# Altium integrated library NXP Semiconductors Automotive MOSFETs.IntLib: 540 symbols (part 11 of 16)
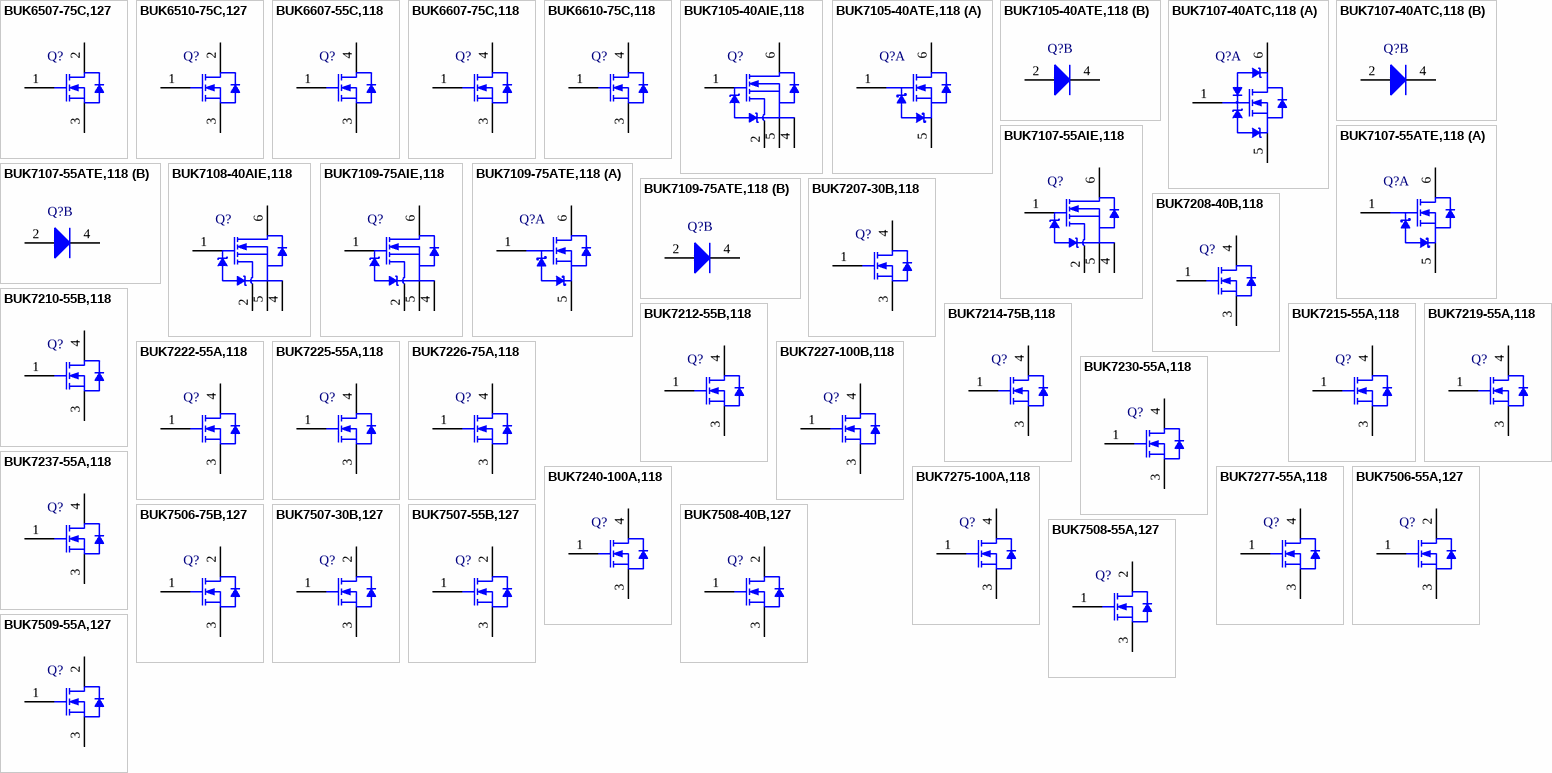
[diagram p24: symbols BUK6507-75C,127 to BUK7509-55A,127]

## BUK7507-30B,127
designator Q?
N-Channel TrenchMOS Standard Level FET, 30 V, 3-Pin SOT78A, Rail; Manufacturer: NXP Semiconductors; PartNumber: BUK7507-30B,127; Automotive Qualified: Y; Channel Type: N; IDM [max] (A): 435; Qr [typ] (nC): 28; VDS [max] (V): 30; VGSth [typ] (V): 3; DatasheetVersion: Rev. 02; PackageVersion: 05-03-14, 03/2005; PackageReference: SOT78A; PackageDescription: 3-Pin Flange Mount, Vertical Straight Lead, Body 10 x 4.3 mm, Pitch 2.54 mm; Supplier 1: Digi-Key; Supplier Part Number 1: 568-5715-5-ND; Supplier 2: Mouser; Supplier Part Number 2: 771-BUK7507-30B127; Packing: Rail; Mounting Technology: Through Hole; Code_JEITA: SC-46; Code_JEDEC: 3-lead TO-220AB; ComponentLink1Description: Manufacturer URL; ComponentLink1URL: http://www.nxp.com/; ComponentLink2Description: Datasheet; ComponentLink2URL: http://www.nxp.com/documents/data_sheet/BUK7507-30B.pdf; ComponentLink3Description: Package Specification; ComponentLink3URL: http://www.nxp.com/documents/outline_drawing/sot078a_po.pdf
footprint NXP-SOT78A (FM, 3-Leads, Body 10.3x4.5mm, Pitch 2.54mm)
pins: 1 G "gate", 2 D "drain", 3 S "source"

## BUK7507-55B,127
designator Q?
N-Channel TrenchMOS Standard Level FET, 55 V, 3-Pin SOT78A, Rail; Manufacturer: NXP Semiconductors; PartNumber: BUK7507-55B,127; Automotive Qualified: Y; Channel Type: N; IDM [max] (A): 478; Qr [typ] (nC): 60; VDS [max] (V): 55; VGSth [typ] (V): 3; DatasheetVersion: Rev. 2; PackageVersion: 05-03-14, 03/2005; PackageReference: SOT78A; PackageDescription: 3-Pin Flange Mount, Vertical Straight Lead, Body 10 x 4.3 mm, Pitch 2.54 mm; Supplier 1: Digi-Key; Supplier Part Number 1: 568-5716-5-ND; Supplier 2: Newark; Supplier Part Number 2: 70R3425; Supplier 3: Mouser; Supplier Part Number 3: 771-BUK7507-55B127; Packing: Rail; Mounting Technology: Through Hole; Code_JEITA: SC-46; Code_JEDEC: 3-lead TO-220AB; ComponentLink1Description: Manufacturer URL; ComponentLink1URL: http://www.nxp.com/; ComponentLink2Description: Datasheet; ComponentLink2URL: http://www.nxp.com/documents/data_sheet/BUK7507-55B.pdf; ComponentLink3Description: Package Specification; ComponentLink3URL: http://www.nxp.com/documents/outline_drawing/sot078a_po.pdf
footprint NXP-SOT78A (FM, 3-Leads, Body 10.3x4.5mm, Pitch 2.54mm)
pins: 1 G "gate", 2 D "drain", 3 S "source"

## BUK7508-40B,127
designator Q?
N-Channel TrenchMOS Standard Level FET, 40 V, 3-Pin SOT78A, Rail; Manufacturer: NXP Semiconductors; PartNumber: BUK7508-40B,127; Automotive Qualified: Y; Channel Type: N; IDM [max] (A): 407; Qr [typ] (nC): 44; VDS [max] (V): 40; VGSth [typ] (V): 3; DatasheetVersion: Rev. 05; PackageVersion: 05-03-14, 03/2005; PackageReference: SOT78A; PackageDescription: 3-Pin Flange Mount, Vertical Straight Lead, Body 10 x 4.3 mm, Pitch 2.54 mm; Supplier 1: Digi-Key; Supplier Part Number 1: 568-5717-5-ND; Supplier 2: Mouser; Supplier Part Number 2: 771-BUK7508-40B127; Packing: Rail; Mounting Technology: Through Hole; Code_JEITA: SC-46; Code_JEDEC: 3-lead TO-220AB; ComponentLink1Description: Manufacturer URL; ComponentLink1URL: http://www.nxp.com/; ComponentLink2Description: Datasheet; ComponentLink2URL: http://www.nxp.com/documents/data_sheet/BUK7508-40B.pdf; ComponentLink3Description: Package Specification; ComponentLink3URL: http://www.nxp.com/documents/outline_drawing/sot078a_po.pdf
footprint NXP-SOT78A (FM, 3-Leads, Body 10.3x4.5mm, Pitch 2.54mm)
pins: 1 G "gate", 2 D "drain", 3 S "source"

## BUK7508-55A,127
designator Q?
N-Channel TrenchMOS Standard Level FET, 55 V, 3-Pin SOT78A, Rail; Manufacturer: NXP Semiconductors; PartNumber: BUK7508-55A,127; Automotive Qualified: Y; Channel Type: N; IDM [max] (A): 504; Qr [typ] (nC): 170; VDS [max] (V): 55; VGSth [typ] (V): 3; DatasheetVersion: Rev. 03; PackageVersion: 08-06-13, 06/2008; PackageReference: SOT78; PackageDescription: 3-Pin Flange Mount, Vertical Straight Lead, Body 10 x 4.4 mm, Pitch 2.54 mm; Supplier 1: Digi-Key; Supplier Part Number 1: 568-9809-5-ND; Supplier 2: Mouser; Supplier Part Number 2: 771-BUK7508-55A127; Packing: Rail; Mounting Technology: Through Hole; Code_JEITA: SC-46; Code_JEDEC: 3-lead TO-220AB; ComponentLink1Description: Manufacturer URL; ComponentLink1URL: http://www.nxp.com/; ComponentLink2Description: Datasheet; ComponentLink2URL: http://www.nxp.com/documents/data_sheet/BUK7508-55A.pdf; ComponentLink3Description: Package Specification; ComponentLink3URL: http://www.nxp.com/documents/outline_drawing/sot078_po.pdf
footprint NXP-SOT78 (FM, 3-Leads, Body 10.3x4.7mm, Pitch 2.54mm)
pins: 1 G "gate", 2 D "drain", 3 S "source"

## BUK7509-55A,127
designator Q?
N-Channel TrenchMOS Standard Level FET, 55 V, 3-Pin SOT78A, Rail; Manufacturer: NXP Semiconductors; PartNumber: BUK7509-55A,127; Automotive Qualified: Y; Channel Type: N; IDM [max] (A): 433; Qr [typ] (nC): 43; VDS [max] (V): 55; VGSth [typ] (V): 3; DatasheetVersion: Rev. 02; PackageVersion: 05-03-14, 03/2005; PackageReference: SOT78A; PackageDescription: 3-Pin Flange Mount, Vertical Straight Lead, Body 10 x 4.3 mm, Pitch 2.54 mm; Supplier 1: Digi-Key; Supplier Part Number 1: 568-9812-5-ND; Supplier 2: Mouser; Supplier Part Number 2: 771-BUK7509-55A,127; Packing: Rail; Mounting Technology: Through Hole; Code_JEITA: SC-46; Code_JEDEC: 3-lead TO-220AB; ComponentLink1Description: Manufacturer URL; ComponentLink1URL: http://www.nxp.com/; ComponentLink2Description: Datasheet; ComponentLink2URL: http://www.nxp.com/documents/data_sheet/BUK7509-55A.pdf; ComponentLink3Description: Package Specification; ComponentLink3URL: http://www.nxp.com/documents/outline_drawing/sot078a_po.pdf
footprint NXP-SOT78A (FM, 3-Leads, Body 10.3x4.5mm, Pitch 2.54mm)
pins: 1 G "gate", 2 D "drain", 3 S "source"

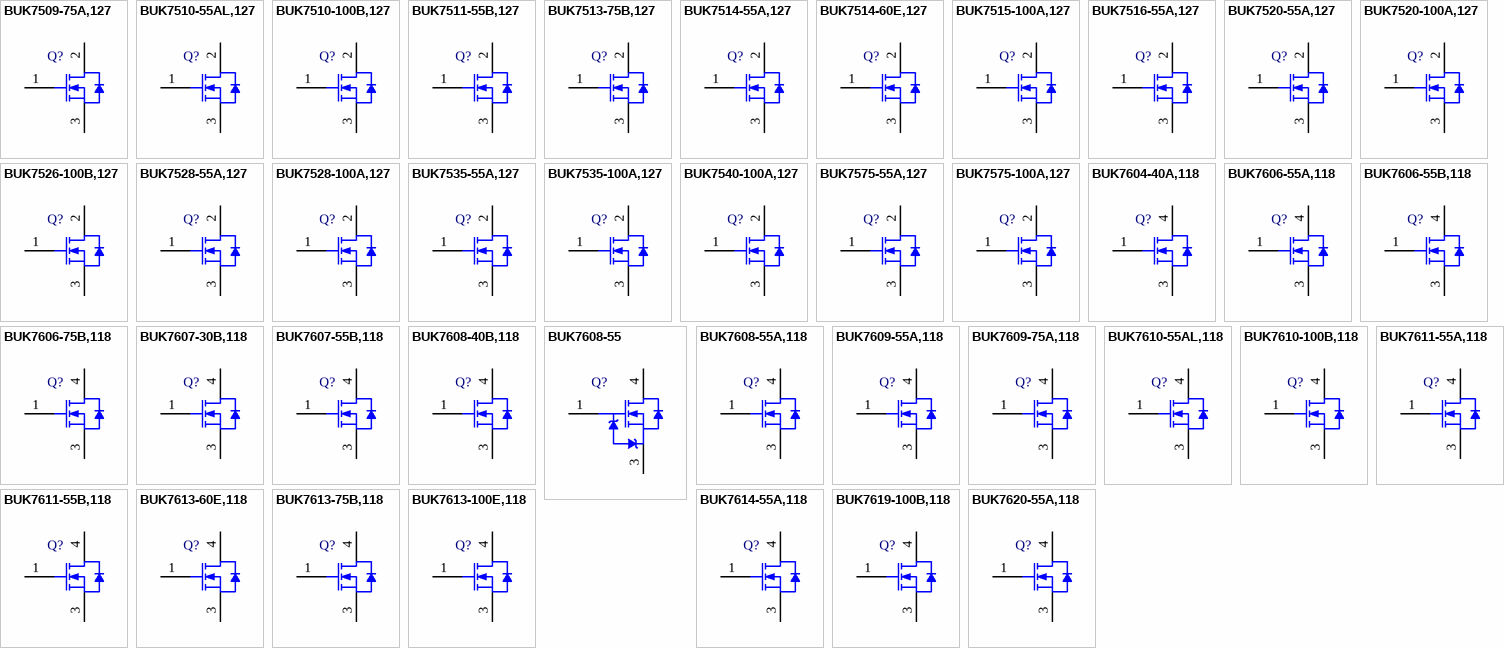
[diagram p10: symbols BUK7509-75A,127 to BUK7620-55A,118]

## BUK7509-75A,127
designator Q?
N-Channel TrenchMOS Standard Level FET, 75 V, 75 A, 3-Pin SOT78A, Rail; Manufacturer: NXP Semiconductors; PartNumber: BUK7509-75A,127; Automotive Qualified: Y; Channel Type: N; ID [max] (A): 75; IDM [max] (A): 440; Qr [typ] (nC): 270; VGSth [typ] (V): 3; DatasheetVersion: Rev. 03; PackageVersion: 05-03-14, 03/2005; PackageReference: SOT78A; PackageDescription: 3-Pin Flange Mount, Vertical Straight Lead, Body 10 x 4.3 mm, Pitch 2.54 mm; Supplier 1: Digi-Key; Supplier Part Number 1: 568-9811-5-ND; Supplier 2: Mouser; Supplier Part Number 2: 771-BUK7509-75A127; Packing: Rail; VDS [max] (V): 75; Mounting Technology: Through Hole; Code_JEITA: SC-46; Code_JEDEC: 3-lead TO-220AB; ComponentLink1Description: Manufacturer URL; ComponentLink1URL: http://www.nxp.com/; ComponentLink2Description: Datasheet; ComponentLink2URL: http://www.nxp.com/documents/data_sheet/BUK7509-75A.pdf; ComponentLink3Description: Package Specification; ComponentLink3URL: http://www.nxp.com/documents/outline_drawing/sot078a_po.pdf
footprint NXP-SOT78A (FM, 3-Leads, Body 10.3x4.5mm, Pitch 2.54mm)
pins: 1 G "gate", 2 D "drain", 3 S "source"

## BUK7510-55AL,127
designator Q?
N-Channel TrenchMOS Standard Level FET, 55 V, 3-Pin SOT78A, Rail; Manufacturer: NXP Semiconductors; PartNumber: BUK7510-55AL,127; Automotive Qualified: Y; Channel Type: N; IDM [max] (A): 490; Qr [typ] (nC): 430; VDS [max] (V): 55; VGSth [typ] (V): 3; DatasheetVersion: Rev. 03; PackageVersion: 08-06-13, 06/2008; PackageReference: SOT78; PackageDescription: 3-Pin Flange Mount, Vertical Straight Lead, Body 10 x 4.4 mm, Pitch 2.54 mm; Supplier 1: Digi-Key; Supplier Part Number 1: 568-9810-5-ND; Supplier 2: Mouser; Supplier Part Number 2: 771-BUK7510-55AL,127; Packing: Rail; Mounting Technology: Through Hole; Code_JEITA: SC-46; Code_JEDEC: 3-lead TO-220AB; ComponentLink1Description: Manufacturer URL; ComponentLink1URL: http://www.nxp.com/; ComponentLink2Description: Datasheet; ComponentLink2URL: http://www.nxp.com/documents/data_sheet/BUK7510-55AL.pdf; ComponentLink3Description: Package Specification; ComponentLink3URL: http://www.nxp.com/documents/outline_drawing/sot078_po.pdf
footprint NXP-SOT78 (FM, 3-Leads, Body 10.3x4.7mm, Pitch 2.54mm)
pins: 1 G "gate", 2 D "drain", 3 S "source"

## BUK7510-100B,127
designator Q?
N-Channel TrenchMOS Standard Level FET, 100 V, 3-Pin SOT78A, Rail; Manufacturer: NXP Semiconductors; PartNumber: BUK7510-100B,127; Automotive Qualified: Y; Channel Type: N; IDM [max] (A): 438; Qr [typ] (nC): 212; VDS [max] (V): 100; VGSth [typ] (V): 3; DatasheetVersion: Rev. 4; PackageVersion: 05-03-14, 03/2005; PackageReference: SOT78A; PackageDescription: 3-Pin Flange Mount, Vertical Straight Lead, Body 10 x 4.3 mm, Pitch 2.54 mm; Supplier 1: Digi-Key; Supplier Part Number 1: 568-6620-5-ND; Supplier 2: Mouser; Supplier Part Number 2: 771-BUK7510-100B127; Packing: Rail; Mounting Technology: Through Hole; Code_JEITA: SC-46; Code_JEDEC: 3-lead TO-220AB; ComponentLink1Description: Manufacturer URL; ComponentLink1URL: http://www.nxp.com/; ComponentLink2Description: Datasheet; ComponentLink2URL: http://www.nxp.com/documents/data_sheet/BUK7510-100B.pdf; ComponentLink3Description: Package Specification; ComponentLink3URL: http://www.nxp.com/documents/outline_drawing/sot078a_po.pdf
footprint NXP-SOT78A (FM, 3-Leads, Body 10.3x4.5mm, Pitch 2.54mm)
pins: 1 G "gate", 2 D "drain", 3 S "source"

## BUK7511-55B,127
designator Q?
N-Channel TrenchMOS Standard Level FET, 55 V, 3-Pin SOT78A, Rail; Manufacturer: NXP Semiconductors; PartNumber: BUK7511-55B,127; Automotive Qualified: Y; Channel Type: N; IDM [max] (A): 338; Qr [typ] (nC): 58; VDS [max] (V): 55; VGSth [typ] (V): 3; DatasheetVersion: Rev. 3; PackageVersion: 05-03-14, 03/2005; PackageReference: SOT78A; PackageDescription: 3-Pin Flange Mount, Vertical Straight Lead, Body 10 x 4.3 mm, Pitch 2.54 mm; Supplier 1: Digi-Key; Supplier Part Number 1: 568-5718-5-ND; Supplier 2: Mouser; Supplier Part Number 2: 771-BUK7511-55B127; Packing: Rail; Mounting Technology: Through Hole; Code_JEITA: SC-46; Code_JEDEC: 3-lead TO-220AB; ComponentLink1Description: Manufacturer URL; ComponentLink1URL: http://www.nxp.com/; ComponentLink2Description: Datasheet; ComponentLink2URL: http://www.nxp.com/documents/data_sheet/BUK7511-55B.pdf; ComponentLink3Description: Package Specification; ComponentLink3URL: http://www.nxp.com/documents/outline_drawing/sot078a_po.pdf
footprint NXP-SOT78A (FM, 3-Leads, Body 10.3x4.5mm, Pitch 2.54mm)
pins: 1 G "gate", 2 D "drain", 3 S "source"

## BUK7513-75B,127
designator Q?
N-Channel TrenchMOS Standard Level FET, 75 V, 75 A, 3-Pin SOT78A, Rail; Manufacturer: NXP Semiconductors; PartNumber: BUK7513-75B,127; Automotive Qualified: Y; Channel Type: N; ID [max] (A): 75; IDM [max] (A): 304; Qr [typ] (nC): 94; VGSth [typ] (V): 3; DatasheetVersion: Rev. 02; PackageVersion: 05-03-14, 03/2005; PackageReference: SOT78A; PackageDescription: 3-Pin Flange Mount, Vertical Straight Lead, Body 10 x 4.3 mm, Pitch 2.54 mm; Supplier 1: Digi-Key; Supplier Part Number 1: 568-5719-5-ND; Supplier 2: Mouser; Supplier Part Number 2: 771-BUK7513-75B127; Packing: Rail; VDS [max] (V): 75; Mounting Technology: Through Hole; Code_JEITA: SC-46; Code_JEDEC: 3-lead TO-220AB; ComponentLink1Description: Manufacturer URL; ComponentLink1URL: http://www.nxp.com/; ComponentLink2Description: Datasheet; ComponentLink2URL: http://www.nxp.com/documents/data_sheet/BUK7513-75B.pdf; ComponentLink3Description: Package Specification; ComponentLink3URL: http://www.nxp.com/documents/outline_drawing/sot078a_po.pdf
footprint NXP-SOT78A (FM, 3-Leads, Body 10.3x4.5mm, Pitch 2.54mm)
pins: 1 G "gate", 2 D "drain", 3 S "source"

## BUK7514-55A,127
designator Q?
N-Channel TrenchMOS Standard Level FET, 55 V, 73 A, 3-Pin SOT78A, Rail; Manufacturer: NXP Semiconductors; PartNumber: BUK7514-55A,127; Automotive Qualified: Y; Channel Type: N; ID [max] (A): 73; IDM [max] (A): 266; Qr [typ] (nC): 120; VDS [max] (V): 55; VGSth [typ] (V): 3; DatasheetVersion: Rev. 2; PackageVersion: 05-03-14, 03/2005; PackageReference: SOT78A; PackageDescription: 3-Pin Flange Mount, Vertical Straight Lead, Body 10 x 4.3 mm, Pitch 2.54 mm; Supplier 1: Digi-Key; Supplier Part Number 1: 568-9813-5-ND; Supplier 2: Mouser; Supplier Part Number 2: 771-BUK7514-55A127; Packing: Rail; Mounting Technology: Through Hole; Code_JEITA: SC-46; Code_JEDEC: 3-lead TO-220AB; ComponentLink1Description: Manufacturer URL; ComponentLink1URL: http://www.nxp.com/; ComponentLink2Description: Datasheet; ComponentLink2URL: http://www.nxp.com/documents/data_sheet/BUK7514-55A.pdf; ComponentLink3Description: Package Specification; ComponentLink3URL: http://www.nxp.com/documents/outline_drawing/sot078a_po.pdf
footprint NXP-SOT78A (FM, 3-Leads, Body 10.3x4.5mm, Pitch 2.54mm)
pins: 1 G "gate", 2 D "drain", 3 S "source"

## BUK7514-60E,127
designator Q?
N-Channel TrenchMOS Standard Level FET, 60 V, 58 A, 3-Pin SOT78A, Rail; Manufacturer: NXP Semiconductors; PartNumber: BUK7514-60E,127; Automotive Qualified: Y; Channel Type: N; ID [max] (A): 58; IDM [max] (A): 234; Qr [typ] (nC): 18.1; VDS [max] (V): 60; VGSth [typ] (V): 3; PackageVersion: 05-03-14, 03/2005; PackageReference: SOT78A; PackageDescription: 3-Pin Flange Mount, Vertical Straight Lead, Body 10 x 4.3 mm, Pitch 2.54 mm; Supplier 1: Digi-Key; Supplier Part Number 1: 568-9836-5-ND; Supplier 2: Mouser; Supplier Part Number 2: 771-BUK7514-60E127; Packing: Rail; Mounting Technology: Through Hole; Code_JEITA: SC-46; Code_JEDEC: 3-lead TO-220AB; ComponentLink1Description: Manufacturer URL; ComponentLink1URL: http://www.nxp.com/; ComponentLink2Description: Datasheet; ComponentLink2URL: http://www.nxp.com/documents/data_sheet/BUK7514-60E.pdf; ComponentLink3Description: Package Specification; ComponentLink3URL: http://www.nxp.com/documents/outline_drawing/sot078a_po.pdf
footprint NXP-SOT78A (FM, 3-Leads, Body 10.3x4.5mm, Pitch 2.54mm)
pins: 1 G "gate", 2 D "drain", 3 S "source"

## BUK7515-100A,127
designator Q?
N-Channel TrenchMOS Standard Level FET, 100 V, 75 A, 3-Pin SOT78A, Rail; Manufacturer: NXP Semiconductors; PartNumber: BUK7515-100A,127; Automotive Qualified: Y; Channel Type: N; ID [max] (A): 75; IDM [max] (A): 240; Qr [typ] (nC): 350; VDS [max] (V): 100; VGSth [typ] (V): 3; PackageVersion: 05-03-14, 03/2005; PackageReference: SOT78A; PackageDescription: 3-Pin Flange Mount, Vertical Straight Lead, Body 10 x 4.3 mm, Pitch 2.54 mm; Supplier 1: Digi-Key; Supplier Part Number 1: 568-9804-5-ND; Supplier 2: Mouser; Supplier Part Number 2: 771-BUK7515-100A127; Packing: Rail; Mounting Technology: Through Hole; Code_JEITA: SC-46; Code_JEDEC: 3-lead TO-220AB; ComponentLink1Description: Manufacturer URL; ComponentLink1URL: http://www.nxp.com/; ComponentLink2Description: Datasheet; ComponentLink2URL: http://www.nxp.com/documents/data_sheet/BUK7515-100A.pdf; ComponentLink3Description: Package Specification; ComponentLink3URL: http://www.nxp.com/documents/outline_drawing/sot078a_po.pdf
footprint NXP-SOT78A (FM, 3-Leads, Body 10.3x4.5mm, Pitch 2.54mm)
pins: 1 G "gate", 2 D "drain", 3 S "source"

## BUK7516-55A,127
designator Q?
N-Channel TrenchMOS Standard Level FET, 55 V, 65.7 A, 3-Pin SOT78A, Rail; Manufacturer: NXP Semiconductors; PartNumber: BUK7516-55A,127; Automotive Qualified: Y; Channel Type: N; ID [max] (A): 65.7; IDM [max] (A): 263; Qr [typ] (nC): 106; VDS [max] (V): 55; VGSth [typ] (V): 3; DatasheetVersion: Rev. 02; PackageVersion: 05-03-14, 03/2005; PackageReference: SOT78A; PackageDescription: 3-Pin Flange Mount, Vertical Straight Lead, Body 10 x 4.3 mm, Pitch 2.54 mm; Supplier 1: Digi-Key; Supplier Part Number 1: 568-9806-5-ND; Supplier 2: Mouser; Supplier Part Number 2: 771-BUK7516-55A127; Packing: Rail; Mounting Technology: Through Hole; Code_JEITA: SC-46; Code_JEDEC: 3-lead TO-220AB; ComponentLink1Description: Manufacturer URL; ComponentLink1URL: http://www.nxp.com/; ComponentLink2Description: Datasheet; ComponentLink2URL: http://www.nxp.com/documents/data_sheet/BUK7516-55A.pdf; ComponentLink3Description: Package Specification; ComponentLink3URL: http://www.nxp.com/documents/outline_drawing/sot078a_po.pdf
footprint NXP-SOT78A (FM, 3-Leads, Body 10.3x4.5mm, Pitch 2.54mm)
pins: 1 G "gate", 2 D "drain", 3 S "source"

## BUK7520-55A,127
designator Q?
N-Channel TrenchMOS Standard Level FET, 55 V, 54 A, 3-Pin SOT78, Rail; Manufacturer: NXP Semiconductors; PartNumber: BUK7520-55A,127; Automotive Qualified: Y; Channel Type: N; ID [max] (A): 54; IDM [max] (A): 217; Qr [typ] (nC): 110; VDS [max] (V): 55; VGSth [typ] (V): 3; DatasheetVersion: Rev. 02; PackageVersion: 08-06-13, 06/2008; PackageReference: SOT78; PackageDescription: 3-Pin Flange Mount, Vertical Straight Lead, Body 10 x 4.4 mm, Pitch 2.54 mm; Supplier 1: Digi-Key; Supplier Part Number 1: 568-9807-5-ND; Supplier 2: Mouser; Supplier Part Number 2: 771-BUK7520-55A127; Packing: Rail; Mounting Technology: Through Hole; Code_JEITA: SC-46; Code_JEDEC: 3-lead TO-220AB; ComponentLink1Description: Manufacturer URL; ComponentLink1URL: http://www.nxp.com/; ComponentLink2Description: Datasheet; ComponentLink2URL: http://www.nxp.com/documents/data_sheet/BUK7520-55A.pdf; ComponentLink3Description: Package Specification; ComponentLink3URL: http://www.nxp.com/documents/outline_drawing/sot078_po.pdf
footprint NXP-SOT78 (FM, 3-Leads, Body 10.3x4.7mm, Pitch 2.54mm)
pins: 1 G "gate", 2 D "drain", 3 S "source"

## BUK7520-100A,127
designator Q?
N-Channel TrenchMOS Standard Level FET, 100 V, 63 A, 3-Pin SOT78A, Rail; Manufacturer: NXP Semiconductors; PartNumber: BUK7520-100A,127; Automotive Qualified: Y; Channel Type: N; ID [max] (A): 63; IDM [max] (A): 253; Qr [typ] (nC): 282; VDS [max] (V): 100; VGSth [typ] (V): 3; DatasheetVersion: Rev. 2; PackageVersion: 05-03-14, 03/2005; PackageReference: SOT78A; PackageDescription: 3-Pin Flange Mount, Vertical Straight Lead, Body 10 x 4.3 mm, Pitch 2.54 mm; Supplier 1: Digi-Key; Supplier Part Number 1: 568-9800-5-ND; Supplier 2: Mouser; Supplier Part Number 2: 771-BUK7520-100A127; Packing: Rail; Mounting Technology: Through Hole; Code_JEITA: SC-46; Code_JEDEC: 3-lead TO-220AB; ComponentLink1Description: Manufacturer URL; ComponentLink1URL: http://www.nxp.com/; ComponentLink2Description: Datasheet; ComponentLink2URL: http://www.nxp.com/documents/data_sheet/BUK7520-100A.pdf; ComponentLink3Description: Package Specification; ComponentLink3URL: http://www.nxp.com/documents/outline_drawing/sot078a_po.pdf
footprint NXP-SOT78A (FM, 3-Leads, Body 10.3x4.5mm, Pitch 2.54mm)
pins: 1 G "gate", 2 D "drain", 3 S "source"

## BUK7526-100B,127
designator Q?
N-Channel TrenchMOS Standard Level FET, 100 V, 49 A, 3-Pin SOT78A, Rail; Manufacturer: NXP Semiconductors; PartNumber: BUK7526-100B,127; Automotive Qualified: Y; Channel Type: N; ID [max] (A): 49; IDM [max] (A): 197; Qr [typ] (nC): 115; VDS [max] (V): 100; VGSth [typ] (V): 3; PackageVersion: 05-03-14, 03/2005; PackageReference: SOT78A; PackageDescription: 3-Pin Flange Mount, Vertical Straight Lead, Body 10 x 4.3 mm, Pitch 2.54 mm; Supplier 1: Digi-Key; Supplier Part Number 1: 568-5720-5-ND; Supplier 2: Mouser; Supplier Part Number 2: 771-BUK7526-100B127; Packing: Rail; Mounting Technology: Through Hole; Code_JEITA: SC-46; Code_JEDEC: 3-lead TO-220AB; ComponentLink1Description: Manufacturer URL; ComponentLink1URL: http://www.nxp.com/; ComponentLink2Description: Datasheet; ComponentLink2URL: http://www.nxp.com/documents/data_sheet/BUK7526-100B.pdf; ComponentLink3Description: Package Specification; ComponentLink3URL: http://www.nxp.com/documents/outline_drawing/sot078a_po.pdf
footprint NXP-SOT78A (FM, 3-Leads, Body 10.3x4.5mm, Pitch 2.54mm)
pins: 1 G "gate", 2 D "drain", 3 S "source"

## BUK7528-55A,127
designator Q?
N-Channel TrenchMOS Standard Level FET, 55 V, 42 A, 3-Pin SOT78A, Rail; Manufacturer: NXP Semiconductors; PartNumber: BUK7528-55A,127; Automotive Qualified: Y; Channel Type: N; ID [max] (A): 42; IDM [max] (A): 168; Qr [typ] (nC): 88; VDS [max] (V): 55; VGSth [typ] (V): 3; DatasheetVersion: Rev. 02; PackageVersion: 05-03-14, 03/2005; PackageReference: SOT78A; PackageDescription: 3-Pin Flange Mount, Vertical Straight Lead, Body 10 x 4.3 mm, Pitch 2.54 mm; Supplier 1: Digi-Key; Supplier Part Number 1: 568-9799-5-ND; Supplier 2: Mouser; Supplier Part Number 2: 771-BUK7528-55A127; Packing: Rail; Mounting Technology: Through Hole; Code_JEITA: SC-46; Code_JEDEC: 3-lead TO-220AB; ComponentLink1Description: Manufacturer URL; ComponentLink1URL: http://www.nxp.com/; ComponentLink2Description: Datasheet; ComponentLink2URL: http://www.nxp.com/documents/data_sheet/BUK7528-55A.pdf; ComponentLink3Description: Package Specification; ComponentLink3URL: http://www.nxp.com/documents/outline_drawing/sot078a_po.pdf
footprint NXP-SOT78A (FM, 3-Leads, Body 10.3x4.5mm, Pitch 2.54mm)
pins: 1 G "gate", 2 D "drain", 3 S "source"

## BUK7528-100A,127
designator Q?
N-Channel TrenchMOS Standard Level FET, 100 V, 47 A, 3-Pin SOT78A, Rail; Manufacturer: NXP Semiconductors; PartNumber: BUK7528-100A,127; Automotive Qualified: Y; Channel Type: N; ID [max] (A): 47; IDM [max] (A): 187; Qr [typ] (nC): 240; VDS [max] (V): 100; VGSth [typ] (V): 3; DatasheetVersion: Rev. 2; PackageVersion: 05-03-14, 03/2005; PackageReference: SOT78A; PackageDescription: 3-Pin Flange Mount, Vertical Straight Lead, Body 10 x 4.3 mm, Pitch 2.54 mm; Supplier 1: Digi-Key; Supplier Part Number 1: 568-9801-5-ND; Supplier 2: Mouser; Supplier Part Number 2: 771-BUK7528-100A127; Packing: Rail; Mounting Technology: Through Hole; Code_JEITA: SC-46; Code_JEDEC: 3-lead TO-220AB; ComponentLink1Description: Manufacturer URL; ComponentLink1URL: http://www.nxp.com/; ComponentLink2Description: Datasheet; ComponentLink2URL: http://www.nxp.com/documents/data_sheet/BUK7528-100A.pdf; ComponentLink3Description: Package Specification; ComponentLink3URL: http://www.nxp.com/documents/outline_drawing/sot078a_po.pdf
footprint NXP-SOT78A (FM, 3-Leads, Body 10.3x4.5mm, Pitch 2.54mm)
pins: 1 G "gate", 2 D "drain", 3 S "source"

## BUK7535-55A,127
designator Q?
N-Channel TrenchMOS Standard Level FET, 55 V, 35 A, 3-Pin SOT78A, Rail; Manufacturer: NXP Semiconductors; PartNumber: BUK7535-55A,127; Automotive Qualified: Y; Channel Type: N; ID [max] (A): 35; IDM [max] (A): 139; Qr [typ] (nC): 80; VDS [max] (V): 55; VGSth [typ] (V): 3; DatasheetVersion: Rev. 02; PackageVersion: 05-03-14, 03/2005; PackageReference: SOT78A; PackageDescription: 3-Pin Flange Mount, Vertical Straight Lead, Body 10 x 4.3 mm, Pitch 2.54 mm; Supplier 1: Digi-Key; Supplier Part Number 1: 568-9802-5-ND; Supplier 2: Newark; Supplier Part Number 2: 70R3450; Supplier 3: Mouser; Supplier Part Number 3: 771-BUK7535-55A127; Packing: Rail; Mounting Technology: Through Hole; Code_JEITA: SC-46; Code_JEDEC: 3-lead TO-220AB; ComponentLink1Description: Manufacturer URL; ComponentLink1URL: http://www.nxp.com/; ComponentLink2Description: Datasheet; ComponentLink2URL: http://www.nxp.com/documents/data_sheet/BUK7535-55A.pdf; ComponentLink3Description: Package Specification; ComponentLink3URL: http://www.nxp.com/documents/outline_drawing/sot078a_po.pdf
footprint NXP-SOT78A (FM, 3-Leads, Body 10.3x4.5mm, Pitch 2.54mm)
pins: 1 G "gate", 2 D "drain", 3 S "source"

## BUK7535-100A,127
designator Q?
N-Channel TrenchMOS Standard Level FET, 100 V, 41 A, 3-Pin SOT78A, Rail; Manufacturer: NXP Semiconductors; PartNumber: BUK7535-100A,127; Automotive Qualified: Y; Channel Type: N; ID [max] (A): 41; IDM [max] (A): 165; Qr [typ] (nC): 220; VDS [max] (V): 100; VGSth [typ] (V): 3; DatasheetVersion: Rev. 02; PackageVersion: 05-03-14, 03/2005; PackageReference: SOT78A; PackageDescription: 3-Pin Flange Mount, Vertical Straight Lead, Body 10 x 4.3 mm, Pitch 2.54 mm; Supplier 1: Digi-Key; Supplier Part Number 1: 568-9803-5-ND; Supplier 2: Mouser; Supplier Part Number 2: 771-BUK7535-100A127; Packing: Rail; Mounting Technology: Through Hole; Code_JEITA: SC-46; Code_JEDEC: 3-lead TO-220AB; ComponentLink1Description: Manufacturer URL; ComponentLink1URL: http://www.nxp.com/; ComponentLink2Description: Datasheet; ComponentLink2URL: http://www.nxp.com/documents/data_sheet/BUK7535-100A.pdf; ComponentLink3Description: Package Specification; ComponentLink3URL: http://www.nxp.com/documents/outline_drawing/sot078a_po.pdf
footprint NXP-SOT78A (FM, 3-Leads, Body 10.3x4.5mm, Pitch 2.54mm)
pins: 1 G "gate", 2 D "drain", 3 S "source"

## BUK7540-100A,127
designator Q?
N-Channel TrenchMOS Standard Level FET, 100 V, 37 A, 3-Pin SOT78A, Rail; Manufacturer: NXP Semiconductors; PartNumber: BUK7540-100A,127; Automotive Qualified: Y; Channel Type: N; ID [max] (A): 37; IDM [max] (A): 149; Qr [typ] (nC): 240; VDS [max] (V): 100; VGSth [typ] (V): 3; DatasheetVersion: Rev. 2; PackageVersion: 05-03-14, 03/2005; PackageReference: SOT78A; PackageDescription: 3-Pin Flange Mount, Vertical Straight Lead, Body 10 x 4.3 mm, Pitch 2.54 mm; Supplier 1: Digi-Key; Supplier Part Number 1: 568-9794-5-ND; Supplier 2: Mouser; Supplier Part Number 2: 771-BUK7540-100A127; Packing: Rail; Mounting Technology: Through Hole; Code_JEITA: SC-46; Code_JEDEC: 3-lead TO-220AB; ComponentLink1Description: Manufacturer URL; ComponentLink1URL: http://www.nxp.com/; ComponentLink2Description: Datasheet; ComponentLink2URL: http://www.nxp.com/documents/data_sheet/BUK7540-100A.pdf; ComponentLink3Description: Package Specification; ComponentLink3URL: http://www.nxp.com/documents/outline_drawing/sot078a_po.pdf
footprint NXP-SOT78A (FM, 3-Leads, Body 10.3x4.5mm, Pitch 2.54mm)
pins: 1 G "gate", 2 D "drain", 3 S "source"

## BUK7575-55A,127
designator Q?
N-Channel TrenchMOS Standard Level FET, 55 V, 20.3 A, 3-Pin SOT78A, Rail; Manufacturer: NXP Semiconductors; PartNumber: BUK7575-55A,127; Automotive Qualified: Y; Channel Type: N; ID [max] (A): 20.3; IDM [max] (A): 81; Qr [typ] (nC): 120; VDS [max] (V): 55; VGSth [typ] (V): 3; DatasheetVersion: Rev. 02; PackageVersion: 05-03-14, 03/2005; PackageReference: SOT78A; PackageDescription: 3-Pin Flange Mount, Vertical Straight Lead, Body 10 x 4.3 mm, Pitch 2.54 mm; Supplier 1: Digi-Key; Supplier Part Number 1: 568-9767-5-ND; Supplier 2: Mouser; Supplier Part Number 2: 771-BUK7575-55A127; Packing: Rail; Mounting Technology: Through Hole; Code_JEITA: SC-46; Code_JEDEC: 3-lead TO-220AB; ComponentLink1Description: Manufacturer URL; ComponentLink1URL: http://www.nxp.com/; ComponentLink2Description: Datasheet; ComponentLink2URL: http://www.nxp.com/documents/data_sheet/BUK7575-55A.pdf; ComponentLink3Description: Package Specification; ComponentLink3URL: http://www.nxp.com/documents/outline_drawing/sot078a_po.pdf
footprint NXP-SOT78A (FM, 3-Leads, Body 10.3x4.5mm, Pitch 2.54mm)
pins: 1 G "gate", 2 D "drain", 3 S "source"

## BUK7575-100A,127
designator Q?
N-Channel TrenchMOS Standard Level FET, 100 V, 23 A, 3-Pin SOT78A, Rail; Manufacturer: NXP Semiconductors; PartNumber: BUK7575-100A,127; Automotive Qualified: Y; Channel Type: N; ID [max] (A): 23; IDM [max] (A): 92; Qr [typ] (nC): 120; VDS [max] (V): 100; VGSth [typ] (V): 3; DatasheetVersion: Rev. 02; PackageVersion: 05-03-14, 03/2005; PackageReference: SOT78A; PackageDescription: 3-Pin Flange Mount, Vertical Straight Lead, Body 10 x 4.3 mm, Pitch 2.54 mm; Supplier 1: Digi-Key; Supplier Part Number 1: 568-9776-5-ND; Supplier 2: Newark; Supplier Part Number 2: 70R3456; Supplier 3: Mouser; Supplier Part Number 3: 771-BUK7575-100A127; Packing: Rail; Mounting Technology: Through Hole; Code_JEITA: SC-46; Code_JEDEC: 3-lead TO-220AB; ComponentLink1Description: Manufacturer URL; ComponentLink1URL: http://www.nxp.com/; ComponentLink2Description: Datasheet; ComponentLink2URL: http://www.nxp.com/documents/data_sheet/BUK7575-100A.pdf; ComponentLink3Description: Package Specification; ComponentLink3URL: http://www.nxp.com/documents/outline_drawing/sot078a_po.pdf
footprint NXP-SOT78A (FM, 3-Leads, Body 10.3x4.5mm, Pitch 2.54mm)
pins: 1 G "gate", 2 D "drain", 3 S "source"

## BUK7604-40A,118
designator Q?
N-Channel TrenchMOS Standard Level FET, 40 V, 3-Pin SOT404, Tape and Reel; Manufacturer: NXP Semiconductors; PartNumber: BUK7604-40A,118; Automotive Qualified: Y; Channel Type: N; IDM [max] (A): 794; Packing: Tape & Reel; Qr [typ] (nC): 224; VDS [max] (V): 40; VGSth [typ] (V): 3; DatasheetVersion: Rev. 03; PackageVersion: 13-02-25, 02/2013; PackageReference: SOT404; PackageDescription: 3-Pin Plastic Single-ended Surface Mounted Package, Body 10 x 9.6 mm, Pitch 2.54 mm; Supplier 1: Digi-Key; Supplier Part Number 1: 568-9644-2-ND; Supplier 2: Digi-Key; Supplier Part Number 2: 568-9644-1-ND; Supplier 3: Digi-Key; Supplier Part Number 3: 568-9644-6-ND; Supplier 4: Mouser; Supplier Part Number 4: 771-BUK7604-40A118; Mounting Technology: Surface Mount; ComponentLink1Description: Manufacturer URL; ComponentLink1URL: http://www.nxp.com/; ComponentLink2Description: Datasheet; ComponentLink2URL: http://www.nxp.com/documents/data_sheet/BUK7604-40A.pdf; ComponentLink3Description: Package Specification; ComponentLink3URL: http://www.nxp.com/documents/outline_drawing/sot404_po.pdf
footprint NXP-SOT404_N (DPAK, 3-Leads, Body 10.3x9.8mm, Pitch 2.54mm, IPC Medium Density)
footprint NXP-SOT404_L (DPAK, 3-Leads, Body 10.3x9.8mm, Pitch 2.54mm, IPC High Density)
footprint NXP-SOT404_M (DPAK, 3-Leads, Body 10.3x9.8mm, Pitch 2.54mm, IPC Low Density)
pins: 1 G "gate", 3 S "source", 4 D "mounting base; connected to drain"

## BUK7606-55A,118
designator Q?
N-Channel TrenchMOS Standard Level FET, 55 V, 3-Pin SOT404, Tape and Reel; Manufacturer: NXP Semiconductors; PartNumber: BUK7606-55A,118; Automotive Qualified: Y; Channel Type: N; IDM [max] (A): 616; Packing: Tape & Reel; Qr [typ] (nC): 200; VDS [max] (V): 55; VGSth [typ] (V): 3; DatasheetVersion: Rev. 03; PackageVersion: 13-02-25, 02/2013; PackageReference: SOT404; PackageDescription: 3-Pin Plastic Single-ended Surface Mounted Package, Body 10 x 9.6 mm, Pitch 2.54 mm; Supplier 1: Digi-Key; Supplier Part Number 1: BUK7606-55A,118-ND; Supplier 2: Mouser; Supplier Part Number 2: 771-BUK7606-55A118; Mounting Technology: Surface Mount; ComponentLink1Description: Manufacturer URL; ComponentLink1URL: http://www.nxp.com/; ComponentLink2Description: Datasheet; ComponentLink2URL: http://www.nxp.com/documents/data_sheet/BUK7606-55A.pdf; ComponentLink3Description: Package Specification; ComponentLink3URL: http://www.nxp.com/documents/outline_drawing/sot404_po.pdf
footprint NXP-SOT404_N (DPAK, 3-Leads, Body 10.3x9.8mm, Pitch 2.54mm, IPC Medium Density)
footprint NXP-SOT404_L (DPAK, 3-Leads, Body 10.3x9.8mm, Pitch 2.54mm, IPC High Density)
footprint NXP-SOT404_M (DPAK, 3-Leads, Body 10.3x9.8mm, Pitch 2.54mm, IPC Low Density)
pins: 1 G "gate", 3 S "source", 4 D "mounting base; connected to drain"

## BUK7606-55B,118
designator Q?
N-Channel TrenchMOS Standard Level FET, 55 V, 3-Pin SOT404, Tape and Reel; Manufacturer: NXP Semiconductors; PartNumber: BUK7606-55B,118; Automotive Qualified: Y; Channel Type: N; IDM [max] (A): 582; Packing: Tape & Reel; Qr [typ] (nC): 82; VDS [max] (V): 55; VGSth [typ] (V): 3; DatasheetVersion: Rev. 02; PackageVersion: 13-02-25, 02/2013; PackageReference: SOT404; PackageDescription: 3-Pin Plastic Single-ended Surface Mounted Package, Body 10 x 9.6 mm, Pitch 2.54 mm; Supplier 1: Digi-Key; Supplier Part Number 1: 568-6571-2-ND; Supplier 2: Digi-Key; Supplier Part Number 2: 568-6571-1-ND; Supplier 3: Digi-Key; Supplier Part Number 3: 568-6571-6-ND; Supplier 4: Mouser; Supplier Part Number 4: 771-BUK7606-55B118; Mounting Technology: Surface Mount; ComponentLink1Description: Manufacturer URL; ComponentLink1URL: http://www.nxp.com/; ComponentLink2Description: Datasheet; ComponentLink2URL: http://www.nxp.com/documents/data_sheet/BUK7606-55B.pdf; ComponentLink3Description: Package Specification; ComponentLink3URL: http://www.nxp.com/documents/outline_drawing/sot404_po.pdf
footprint NXP-SOT404_N (DPAK, 3-Leads, Body 10.3x9.8mm, Pitch 2.54mm, IPC Medium Density)
footprint NXP-SOT404_L (DPAK, 3-Leads, Body 10.3x9.8mm, Pitch 2.54mm, IPC High Density)
footprint NXP-SOT404_M (DPAK, 3-Leads, Body 10.3x9.8mm, Pitch 2.54mm, IPC Low Density)
pins: 1 G "gate", 3 S "source", 4 D "mounting base; connected to drain"

## BUK7606-75B,118
designator Q?
N-Channel TrenchMOS Standard Level FET, 75 V, 3-Pin SOT404, Tape and Reel; Manufacturer: NXP Semiconductors; PartNumber: BUK7606-75B,118; Automotive Qualified: Y; Channel Type: N; IDM [max] (A): 638; Packing: Tape & Reel; Qr [typ] (nC): 253; VDS [max] (V): 75; VGSth [typ] (V): 3; DatasheetVersion: Rev. 03; PackageVersion: 13-02-25, 02/2013; PackageReference: SOT404; PackageDescription: 3-Pin Plastic Single-ended Surface Mounted Package, Body 10 x 9.6 mm, Pitch 2.54 mm; Supplier 1: Digi-Key; Supplier Part Number 1: 568-6572-2-ND; Supplier 2: Digi-Key; Supplier Part Number 2: 568-6572-1-ND; Supplier 3: Digi-Key; Supplier Part Number 3: 568-6572-6-ND; Supplier 4: Newark; Supplier Part Number 4: 70R3461; Supplier 5: Mouser; Supplier Part Number 5: 771-BUK7606-75B118; Mounting Technology: Surface Mount; ComponentLink1Description: Manufacturer URL; ComponentLink1URL: http://www.nxp.com/; ComponentLink2Description: Datasheet; ComponentLink2URL: http://www.nxp.com/documents/data_sheet/BUK7606-75B.pdf; ComponentLink3Description: Package Specification; ComponentLink3URL: http://www.nxp.com/documents/outline_drawing/sot404_po.pdf
footprint NXP-SOT404_N (DPAK, 3-Leads, Body 10.3x9.8mm, Pitch 2.54mm, IPC Medium Density)
footprint NXP-SOT404_L (DPAK, 3-Leads, Body 10.3x9.8mm, Pitch 2.54mm, IPC High Density)
footprint NXP-SOT404_M (DPAK, 3-Leads, Body 10.3x9.8mm, Pitch 2.54mm, IPC Low Density)
pins: 1 G "gate", 3 S "source", 4 D "mounting base; connected to drain"

## BUK7607-30B,118
designator Q?
N-Channel TrenchMOS Standard Level FET, 30 V, 3-Pin SOT404, Tape and Reel; Manufacturer: NXP Semiconductors; PartNumber: BUK7607-30B,118; Automotive Qualified: Y; Channel Type: N; IDM [max] (A): 435; Packing: Tape & Reel; Qr [typ] (nC): 28; VDS [max] (V): 30; VGSth [typ] (V): 3; DatasheetVersion: Rev. 02; PackageVersion: 13-02-25, 02/2013; PackageReference: SOT404; PackageDescription: 3-Pin Plastic Single-ended Surface Mounted Package, Body 10 x 9.6 mm, Pitch 2.54 mm; Supplier 1: Digi-Key; Supplier Part Number 1: 568-5848-2-ND; Supplier 2: Digi-Key; Supplier Part Number 2: 568-5848-1-ND; Supplier 3: Digi-Key; Supplier Part Number 3: 568-5848-6-ND; Supplier 4: Mouser; Supplier Part Number 4: 771-BUK7607-30B118; Mounting Technology: Surface Mount; ComponentLink1Description: Manufacturer URL; ComponentLink1URL: http://www.nxp.com/; ComponentLink2Description: Datasheet; ComponentLink2URL: http://www.nxp.com/documents/data_sheet/BUK7607-30B.pdf; ComponentLink3Description: Package Specification; ComponentLink3URL: http://www.nxp.com/documents/outline_drawing/sot404_po.pdf
footprint NXP-SOT404_N (DPAK, 3-Leads, Body 10.3x9.8mm, Pitch 2.54mm, IPC Medium Density)
footprint NXP-SOT404_L (DPAK, 3-Leads, Body 10.3x9.8mm, Pitch 2.54mm, IPC High Density)
footprint NXP-SOT404_M (DPAK, 3-Leads, Body 10.3x9.8mm, Pitch 2.54mm, IPC Low Density)
pins: 1 G "gate", 3 S "source", 4 D "mounting base; connected to drain"

## BUK7607-55B,118
designator Q?
N-Channel TrenchMOS Standard Level FET, 55 V, 3-Pin SOT404, Tape and Reel; Manufacturer: NXP Semiconductors; PartNumber: BUK7607-55B,118; Automotive Qualified: Y; Channel Type: N; IDM [max] (A): 478; Packing: Tape & Reel; Qr [typ] (nC): 60; VDS [max] (V): 55; VGSth [typ] (V): 3; DatasheetVersion: Rev. 2; PackageVersion: 13-02-25, 02/2013; PackageReference: SOT404; PackageDescription: 3-Pin Plastic Single-ended Surface Mounted Package, Body 10 x 9.6 mm, Pitch 2.54 mm; Supplier 1: Digi-Key; Supplier Part Number 1: 568-5849-2-ND; Supplier 2: Digi-Key; Supplier Part Number 2: 568-5849-1-ND; Supplier 3: Digi-Key; Supplier Part Number 3: 568-5849-6-ND; Supplier 4: Mouser; Supplier Part Number 4: 771-BUK7607-55B118; Mounting Technology: Surface Mount; ComponentLink1Description: Manufacturer URL; ComponentLink1URL: http://www.nxp.com/; ComponentLink2Description: Datasheet; ComponentLink2URL: http://www.nxp.com/documents/data_sheet/BUK7607-55B.pdf; ComponentLink3Description: Package Specification; ComponentLink3URL: http://www.nxp.com/documents/outline_drawing/sot404_po.pdf
footprint NXP-SOT404_N (DPAK, 3-Leads, Body 10.3x9.8mm, Pitch 2.54mm, IPC Medium Density)
footprint NXP-SOT404_L (DPAK, 3-Leads, Body 10.3x9.8mm, Pitch 2.54mm, IPC High Density)
footprint NXP-SOT404_M (DPAK, 3-Leads, Body 10.3x9.8mm, Pitch 2.54mm, IPC Low Density)
pins: 1 G "gate", 3 S "source", 4 D "mounting base; connected to drain"

## BUK7608-40B,118
designator Q?
N-Channel TrenchMOS Standard Level FET, 40 V, 3-Pin SOT404, Tape and Reel; Manufacturer: NXP Semiconductors; PartNumber: BUK7608-40B,118; Automotive Qualified: Y; Channel Type: N; IDM [max] (A): 407; Packing: Tape & Reel; Qr [typ] (nC): 44; VDS [max] (V): 40; VGSth [typ] (V): 3; DatasheetVersion: Rev. 04; PackageVersion: 13-02-25, 02/2013; PackageReference: SOT404; PackageDescription: 3-Pin Plastic Single-ended Surface Mounted Package, Body 10 x 9.6 mm, Pitch 2.54 mm; Supplier 1: Digi-Key; Supplier Part Number 1: 568-5850-2-ND; Supplier 2: Digi-Key; Supplier Part Number 2: 568-5850-1-ND; Supplier 3: Digi-Key; Supplier Part Number 3: 568-5850-6-ND; Supplier 4: Mouser; Supplier Part Number 4: 771-BUK7608-40B118; Mounting Technology: Surface Mount; ComponentLink1Description: Manufacturer URL; ComponentLink1URL: http://www.nxp.com/; ComponentLink2Description: Datasheet; ComponentLink2URL: http://www.nxp.com/documents/data_sheet/BUK7608-40B.pdf; ComponentLink3Description: Package Specification; ComponentLink3URL: http://www.nxp.com/documents/outline_drawing/sot404_po.pdf
footprint NXP-SOT404_N (DPAK, 3-Leads, Body 10.3x9.8mm, Pitch 2.54mm, IPC Medium Density)
footprint NXP-SOT404_L (DPAK, 3-Leads, Body 10.3x9.8mm, Pitch 2.54mm, IPC High Density)
footprint NXP-SOT404_M (DPAK, 3-Leads, Body 10.3x9.8mm, Pitch 2.54mm, IPC Low Density)
pins: 1 G "gate", 3 S "source", 4 D "mounting base; connected to drain"

## BUK7608-55
designator Q?
N-Channel TrenchMOS(TM) Transistor Standard Level FET, 55 V, 75 A, -55 to 175 degC, 3-Pin SOT404; Manufacturer: NXP Semiconductors; PartNumber: BUK7608-55; Automotive Qualified: Y; Channel Type: N; ID [max] (A): 75; IDM [max] (A): 240; Qr [typ] (nC): 180; VDS [max] (V): 55; VGSth [typ] (V): 3; DatasheetVersion: Rev. 1.000; PackageReference: SOT404_A; PackageDescription: 3-Pin Plastic Single-ended Surface Mounted Package, Body 10.3 x 9.8 mm, Pitch 2.54 mm; Mounting Technology: Surface Mount; ComponentLink1Description: Manufacturer URL; ComponentLink1URL: http://www.nxp.com/; ComponentLink2Description: Datasheet; ComponentLink2URL: http://www.nxp.com/documents/data_sheet/BUK7608-55.pdf; ComponentLink3Description: Package Specification; ComponentLink3URL: http://www.nxp.com/documents/data_sheet/BUK7608-55.pdf
footprint NXP-SOT404_A_V (DPAK, 3-Leads, Body 10.3x9.8mm, Pitch 2.54mm, Recommended)
pins: 1 G, 3 S, 4 D

## BUK7608-55A,118
designator Q?
N-Channel TrenchMOS Standard Level FET, 55 V, 3-Pin SOT404, Tape and Reel; Manufacturer: NXP Semiconductors; PartNumber: BUK7608-55A,118; Automotive Qualified: Y; Channel Type: N; IDM [max] (A): 504; Packing: Tape & Reel; Qr [typ] (nC): 170; VDS [max] (V): 55; VGSth [typ] (V): 3; DatasheetVersion: Rev. 03; PackageVersion: 13-02-25, 02/2013; PackageReference: SOT404; PackageDescription: 3-Pin Plastic Single-ended Surface Mounted Package, Body 10 x 9.6 mm, Pitch 2.54 mm; Supplier 1: Digi-Key; Supplier Part Number 1: 568-9645-2-ND; Supplier 2: Digi-Key; Supplier Part Number 2: 568-9645-1-ND; Supplier 3: Digi-Key; Supplier Part Number 3: 568-9645-6-ND; Supplier 4: Newark; Supplier Part Number 4: 79R1848; Supplier 5: Mouser; Supplier Part Number 5: 771-BUK7608-55A118; Mounting Technology: Surface Mount; ComponentLink1Description: Manufacturer URL; ComponentLink1URL: http://www.nxp.com/; ComponentLink2Description: Datasheet; ComponentLink2URL: http://www.nxp.com/documents/data_sheet/BUK7608-55A.pdf; ComponentLink3Description: Package Specification; ComponentLink3URL: http://www.nxp.com/documents/outline_drawing/sot404_po.pdf
footprint NXP-SOT404_N (DPAK, 3-Leads, Body 10.3x9.8mm, Pitch 2.54mm, IPC Medium Density)
footprint NXP-SOT404_L (DPAK, 3-Leads, Body 10.3x9.8mm, Pitch 2.54mm, IPC High Density)
footprint NXP-SOT404_M (DPAK, 3-Leads, Body 10.3x9.8mm, Pitch 2.54mm, IPC Low Density)
pins: 1 G "gate", 3 S "source", 4 D "mounting base; connected to drain"

## BUK7609-55A,118
designator Q?
N-Channel TrenchMOS Standard Level FET, 55 V, 3-Pin SOT404, Tape and Reel; Manufacturer: NXP Semiconductors; PartNumber: BUK7609-55A,118; Automotive Qualified: Y; Channel Type: N; IDM [max] (A): 433; Packing: Tape & Reel; Qr [typ] (nC): 43; VDS [max] (V): 55; VGSth [typ] (V): 3; DatasheetVersion: Rev. 02; PackageVersion: 13-02-25, 02/2013; PackageReference: SOT404; PackageDescription: 3-Pin Plastic Single-ended Surface Mounted Package, Body 10 x 9.6 mm, Pitch 2.54 mm; Supplier 1: Digi-Key; Supplier Part Number 1: 568-9646-2-ND; Supplier 2: Digi-Key; Supplier Part Number 2: 568-9646-1-ND; Supplier 3: Digi-Key; Supplier Part Number 3: 568-9646-6-ND; Supplier 4: Mouser; Supplier Part Number 4: 771-BUK7609-55A,118; Mounting Technology: Surface Mount; ComponentLink1Description: Manufacturer URL; ComponentLink1URL: http://www.nxp.com/; ComponentLink2Description: Datasheet; ComponentLink2URL: http://www.nxp.com/documents/data_sheet/BUK7609-55A.pdf; ComponentLink3Description: Package Specification; ComponentLink3URL: http://www.nxp.com/documents/outline_drawing/sot404_po.pdf
footprint NXP-SOT404_N (DPAK, 3-Leads, Body 10.3x9.8mm, Pitch 2.54mm, IPC Medium Density)
footprint NXP-SOT404_L (DPAK, 3-Leads, Body 10.3x9.8mm, Pitch 2.54mm, IPC High Density)
footprint NXP-SOT404_M (DPAK, 3-Leads, Body 10.3x9.8mm, Pitch 2.54mm, IPC Low Density)
pins: 1 G "gate", 3 S "source", 4 D "mounting base; connected to drain"

## BUK7609-75A,118
designator Q?
N-Channel TrenchMOS Standard Level FET, 75 V, 75 A, 3-Pin SOT404, Tape and Reel; Manufacturer: NXP Semiconductors; PartNumber: BUK7609-75A,118; Automotive Qualified: Y; Channel Type: N; ID [max] (A): 75; IDM [max] (A): 440; Packing: Tape & Reel; Qr [typ] (nC): 270; VGSth [typ] (V): 3; DatasheetVersion: Rev. 03; PackageVersion: 13-02-25, 02/2013; PackageReference: SOT404; PackageDescription: 3-Pin Plastic Single-ended Surface Mounted Package, Body 10 x 9.6 mm, Pitch 2.54 mm; Supplier 1: Digi-Key; Supplier Part Number 1: 568-9647-2-ND; Supplier 2: Digi-Key; Supplier Part Number 2: 568-9647-1-ND; Supplier 3: Digi-Key; Supplier Part Number 3: 568-9647-6-ND; Supplier 4: Newark; Supplier Part Number 4: 70R3467; Supplier 5: Mouser; Supplier Part Number 5: 771-BUK7609-75A118; VDS [max] (V): 75; Mounting Technology: Surface Mount; ComponentLink1Description: Manufacturer URL; ComponentLink1URL: http://www.nxp.com/; ComponentLink2Description: Datasheet; ComponentLink2URL: http://www.nxp.com/documents/data_sheet/BUK7609-75A.pdf; ComponentLink3Description: Package Specification; ComponentLink3URL: http://www.nxp.com/documents/outline_drawing/sot404_po.pdf
footprint NXP-SOT404_N (DPAK, 3-Leads, Body 10.3x9.8mm, Pitch 2.54mm, IPC Medium Density)
footprint NXP-SOT404_L (DPAK, 3-Leads, Body 10.3x9.8mm, Pitch 2.54mm, IPC High Density)
footprint NXP-SOT404_M (DPAK, 3-Leads, Body 10.3x9.8mm, Pitch 2.54mm, IPC Low Density)
pins: 1 G "gate", 3 S "source", 4 D "mounting base; connected to drain"

## BUK7610-55AL,118
designator Q?
N-Channel TrenchMOS Standard Level FET, 55 V, 3-Pin SOT404, Tape and Reel; Manufacturer: NXP Semiconductors; PartNumber: BUK7610-55AL,118; Automotive Qualified: Y; Channel Type: N; IDM [max] (A): 490; Packing: Tape & Reel; Qr [typ] (nC): 430; VDS [max] (V): 55; VGSth [typ] (V): 3; DatasheetVersion: Rev. 02; PackageVersion: 13-02-25, 02/2013; PackageReference: SOT404; PackageDescription: 3-Pin Plastic Single-ended Surface Mounted Package, Body 10 x 9.6 mm, Pitch 2.54 mm; Supplier 1: Digi-Key; Supplier Part Number 1: 568-9648-2-ND; Supplier 2: Digi-Key; Supplier Part Number 2: 568-9648-1-ND; Supplier 3: Digi-Key; Supplier Part Number 3: 568-9648-6-ND; Supplier 4: Mouser; Supplier Part Number 4: 771-BUK7610-55AL,118; Mounting Technology: Surface Mount; ComponentLink1Description: Manufacturer URL; ComponentLink1URL: http://www.nxp.com/; ComponentLink2Description: Datasheet; ComponentLink2URL: http://www.nxp.com/documents/data_sheet/BUK7610-55AL.pdf; ComponentLink3Description: Package Specification; ComponentLink3URL: http://www.nxp.com/documents/outline_drawing/sot404_po.pdf
footprint NXP-SOT404_N (DPAK, 3-Leads, Body 10.3x9.8mm, Pitch 2.54mm, IPC Medium Density)
footprint NXP-SOT404_L (DPAK, 3-Leads, Body 10.3x9.8mm, Pitch 2.54mm, IPC High Density)
footprint NXP-SOT404_M (DPAK, 3-Leads, Body 10.3x9.8mm, Pitch 2.54mm, IPC Low Density)
pins: 1 G "gate", 3 S "source", 4 D "mounting base; connected to drain"

## BUK7610-100B,118
designator Q?
N-Channel TrenchMOS Standard Level FET, 100 V, 3-Pin SOT404, Tape and Reel; Manufacturer: NXP Semiconductors; PartNumber: BUK7610-100B,118; Automotive Qualified: Y; Channel Type: N; IDM [max] (A): 438; Packing: Tape & Reel; Qr [typ] (nC): 212; VDS [max] (V): 100; VGSth [typ] (V): 3; PackageVersion: 13-02-25, 02/2013; PackageReference: SOT404; PackageDescription: 3-Pin Plastic Single-ended Surface Mounted Package, Body 10 x 9.6 mm, Pitch 2.54 mm; Supplier 1: Digi-Key; Supplier Part Number 1: 568-6573-2-ND; Supplier 2: Digi-Key; Supplier Part Number 2: 568-6573-1-ND; Supplier 3: Digi-Key; Supplier Part Number 3: 568-6573-6-ND; Supplier 4: Newark; Supplier Part Number 4: 70R3469; Supplier 5: Mouser; Supplier Part Number 5: 771-BUK7610-100B118; Mounting Technology: Surface Mount; ComponentLink1Description: Manufacturer URL; ComponentLink1URL: http://www.nxp.com/; ComponentLink2Description: Datasheet; ComponentLink2URL: http://www.nxp.com/documents/data_sheet/BUK7610-100B.pdf; ComponentLink3Description: Package Specification; ComponentLink3URL: http://www.nxp.com/documents/outline_drawing/sot404_po.pdf
footprint NXP-SOT404_N (DPAK, 3-Leads, Body 10.3x9.8mm, Pitch 2.54mm, IPC Medium Density)
footprint NXP-SOT404_L (DPAK, 3-Leads, Body 10.3x9.8mm, Pitch 2.54mm, IPC High Density)
footprint NXP-SOT404_M (DPAK, 3-Leads, Body 10.3x9.8mm, Pitch 2.54mm, IPC Low Density)
pins: 1 G "gate", 3 S "source", 4 D "mounting base; connected to drain"

## BUK7611-55A,118
designator Q?
N-Channel TrenchMOS Standard Level FET, 55 V, 75 A, 3-Pin SOT404, Tape and Reel; Manufacturer: NXP Semiconductors; PartNumber: BUK7611-55A,118; Automotive Qualified: Y; Channel Type: N; ID [max] (A): 75; IDM [max] (A): 347; Packing: Tape & Reel; Qr [typ] (nC): 140; VDS [max] (V): 55; VGSth [typ] (V): 3; DatasheetVersion: Rev. 02; PackageVersion: 13-02-25, 02/2013; PackageReference: SOT404; PackageDescription: 3-Pin Plastic Single-ended Surface Mounted Package, Body 10 x 9.6 mm, Pitch 2.54 mm; Supplier 1: Digi-Key; Supplier Part Number 1: 568-9649-2-ND; Supplier 2: Digi-Key; Supplier Part Number 2: 568-9649-1-ND; Supplier 3: Digi-Key; Supplier Part Number 3: 568-9649-6-ND; Supplier 4: Mouser; Supplier Part Number 4: 771-BUK7611-55A118; Mounting Technology: Surface Mount; ComponentLink1Description: Manufacturer URL; ComponentLink1URL: http://www.nxp.com/; ComponentLink2Description: Datasheet; ComponentLink2URL: http://www.nxp.com/documents/data_sheet/BUK7611-55A.pdf; ComponentLink3Description: Package Specification; ComponentLink3URL: http://www.nxp.com/documents/outline_drawing/sot404_po.pdf
footprint NXP-SOT404_N (DPAK, 3-Leads, Body 10.3x9.8mm, Pitch 2.54mm, IPC Medium Density)
footprint NXP-SOT404_L (DPAK, 3-Leads, Body 10.3x9.8mm, Pitch 2.54mm, IPC High Density)
footprint NXP-SOT404_M (DPAK, 3-Leads, Body 10.3x9.8mm, Pitch 2.54mm, IPC Low Density)
pins: 1 G "gate", 3 S "source", 4 D "mounting base; connected to drain"

## BUK7611-55B,118
designator Q?
N-Channel TrenchMOS Standard Level FET, 55 V, 3-Pin SOT404, Tape and Reel; Manufacturer: NXP Semiconductors; PartNumber: BUK7611-55B,118; Automotive Qualified: Y; Channel Type: N; IDM [max] (A): 338; Packing: Tape & Reel; Qr [typ] (nC): 58; VDS [max] (V): 55; VGSth [typ] (V): 3; DatasheetVersion: Rev. 3; PackageVersion: 13-02-25, 02/2013; PackageReference: SOT404; PackageDescription: 3-Pin Plastic Single-ended Surface Mounted Package, Body 10 x 9.6 mm, Pitch 2.54 mm; Supplier 1: Digi-Key; Supplier Part Number 1: 568-5851-2-ND; Supplier 2: Digi-Key; Supplier Part Number 2: 568-5851-1-ND; Supplier 3: Digi-Key; Supplier Part Number 3: 568-5851-6-ND; Supplier 4: Mouser; Supplier Part Number 4: 771-BUK7611-55B118; Mounting Technology: Surface Mount; ComponentLink1Description: Manufacturer URL; ComponentLink1URL: http://www.nxp.com/; ComponentLink2Description: Datasheet; ComponentLink2URL: http://www.nxp.com/documents/data_sheet/BUK7611-55B.pdf; ComponentLink3Description: Package Specification; ComponentLink3URL: http://www.nxp.com/documents/outline_drawing/sot404_po.pdf
footprint NXP-SOT404_N (DPAK, 3-Leads, Body 10.3x9.8mm, Pitch 2.54mm, IPC Medium Density)
footprint NXP-SOT404_L (DPAK, 3-Leads, Body 10.3x9.8mm, Pitch 2.54mm, IPC High Density)
footprint NXP-SOT404_M (DPAK, 3-Leads, Body 10.3x9.8mm, Pitch 2.54mm, IPC Low Density)
pins: 1 G "gate", 3 S "source", 4 D "mounting base; connected to drain"